# EAGLE library part DMN61D8LVT-DUAL-N-CHANNEL-MOSFET (library GROUND-STATION-POWER-BOARD)
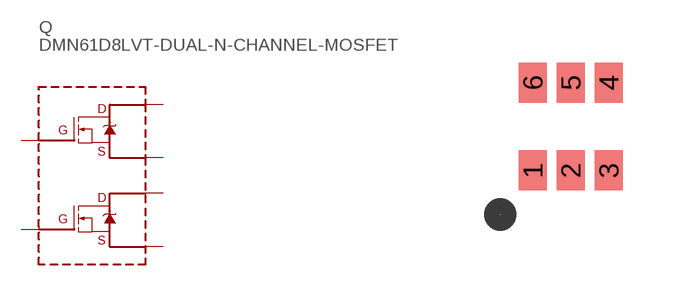
[diagram p2: symbol with the pads of TSOT26; footprint TSOT26]

Designator prefix Q

## DMN61D8LVT-DUAL-N-CHANNEL-MOSFET  [TSOT26]
1  S1
2  G1
3  D2
4  S2
5  G2
6  D1

## Footprint TSOT26 (pad centres in mm)
smd 0.7 x 1: 1 -0.95,-1.099; 2 0,-1.099; 3 0.95,-1.099; 4 0.95,1.099; 5 0,1.099; 6 -0.95,1.099